# Altium footprint library PcbLib.PcbLib: 2 footprints
Each footprint in its own frame and in the unit in brackets; x right, y up, seen from the top. Pads: shape width x height; smd on the part's side, far side on the other; paste and mask are expansions set on the pad; w line width, h text height; cw(c..) or ccw(c..) is an arc to the next point about the centre after c.
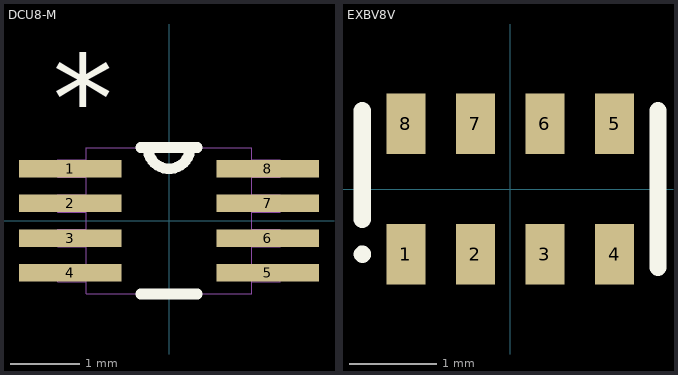
[diagram p0: the footprints below, top view; thin cyan lines are the x and y axes]

## DCU8-M [mil]
pads (8):
  rect 58x10 smd: 1(-56,29.53) 2(-56,9.84) 3(-56,-9.84) 4(-56,-29.53) 5(56,-29.53) 6(56,-9.84) 7(56,9.84) 8(56,29.53)
Top Overlay:
  lines w6: -15.91,-41.5 15.91,-41.5 ; -15.91,41.5 15.91,41.5 ; -12,41.5 ccw(c0,41.5) 12,41.5
  text "*" at -66,44.53 h50
Mechanical 1:
  lines w0: -12,41.5 ccw(c0,41.5) 12,41.5 ; -63,-34.53 -63,-24.53 -47,-24.53 -47,-34.53 -63,-34.53 ; -63,-14.84 -63,-4.84 -47,-4.84 -47,-14.84 -63,-14.84 ; -63,4.84 -63,14.84 -47,14.84 -47,4.84 -63,4.84 ; -63,24.53 -63,34.53 -47,34.53 -47,24.53 -63,24.53 ; -47,-41.5 47,-41.5 47,41.5 -47,41.5 -47,-41.5 ; 47,-34.53 47,-24.53 63,-24.53 63,-34.53 47,-34.53 ; 47,-14.84 47,-4.84 63,-4.84 63,-14.84 47,-14.84 ; 47,4.84 47,14.84 63,14.84 63,4.84 47,4.84 ; 47,24.53 47,34.53 63,34.53 63,24.53 47,24.53
  text "*" at -66,44.53 h50

## EXBV8V [mm] "Chip Resistor Array, (0603x4); SM; 8 Leads; Body 3.40 x 1.80 mm (LxW max)"
height 0.7
pads (8):
  rect 0.45x0.7 smd: 1(-1.2,-0.75) 2(-0.4,-0.75) 3(0.4,-0.75) 4(1.2,-0.75) 5(1.2,0.75) 6(0.4,0.75) 7(-0.4,0.75) 8(-1.2,0.75)
Top Overlay:
  circle w0.1: c-1.7,-0.75 r0.05
  lines w0.2: -1.7,-0.35 -1.7,0.9 ; 1.7,-0.9 1.7,0.9